# Altium schematic symbol library NTCs.SchLib: 1 symbol
Pins are listed as number, name and electrical type; pins without a type are passive.

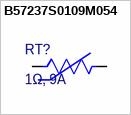
[diagram p0: symbol B57237S0109M054]

## B57237S0109M054
designator RT?, comment 1Ω, 9A
NTC THERMISTOR ICL S237/1/M54; Manufacturer: EPCOS; Manufacturer Part Number: B57237S0109M054; Power Dissipation: 3.1W; Ratings: VDE; Tolerance: 20%; Supplier: DigiKey; Supplier Part Number: 495-B57237S0109M054CT-ND; RoHS: Compliant; Category: Resistors; Stock: 1723; Pricing: 1=1.46, 5=1.29, 10=1.227, 25=1.152, 50=1.101, 100=1.0542 (USD); Export Control Classification Number (ECCN) Code: EAR99; Height: 22mm; Harmonized Tariff Schedule (HTS) Code: 8533.40.80.70; Introduction Date: 2019-05-03; Length: 15mm; Lifecycle Status: Production; Max Operating Temperature: 170°C; Min Operating Temperature: -55°C; Number of Terminals: 2; REACH SVHC: No; Value: 1Ω; Width: 7mm; ComponentLink1URL: https://datasheet.octopart.com:443/B57237S0109M054-EPCOS-datasheet-155389212.pdf?src-supplier=IHS; ComponentLink1Description: https://datasheet.octopart.com:443/B57237S0109M054-EPCOS-datasheet-155389212.pdf?src-supplier=IHS
footprint B57237S0109M054
pins: 1, 2